# EAGLE library part USBF (library robots)
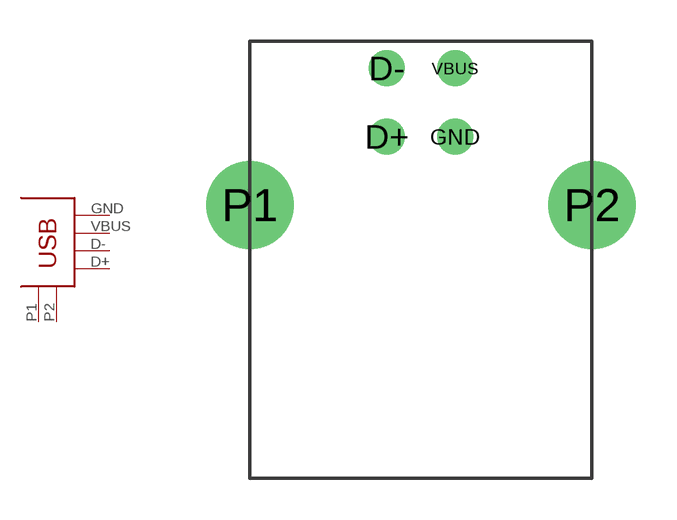
[diagram p4: symbol with the pads of BTYPE; footprint BTYPE]

Designator prefix -

## USBF  [BTYPE]
D+  D+
D-  D-
GND  GND
P1  P1
P2  P2
VBUS  VBUS

## Footprint BTYPE (pad centres in mm)
drill 0.813 round: D+ 0,-2.5; D- 0,0; GND 2.5,-2.5; VBUS 2.5,0
drill 2.184 round: P1 -5,-5; P2 7.5,-5